# Altium footprint library SOT23-3.PcbLib: 1 footprints
Each footprint in its own frame and in the unit in brackets; x right, y up, seen from the top. Pads: shape width x height; smd on the part's side, far side on the other; paste and mask are expansions set on the pad; w line width, h text height; cw(c..) or ccw(c..) is an arc to the next point about the centre after c.
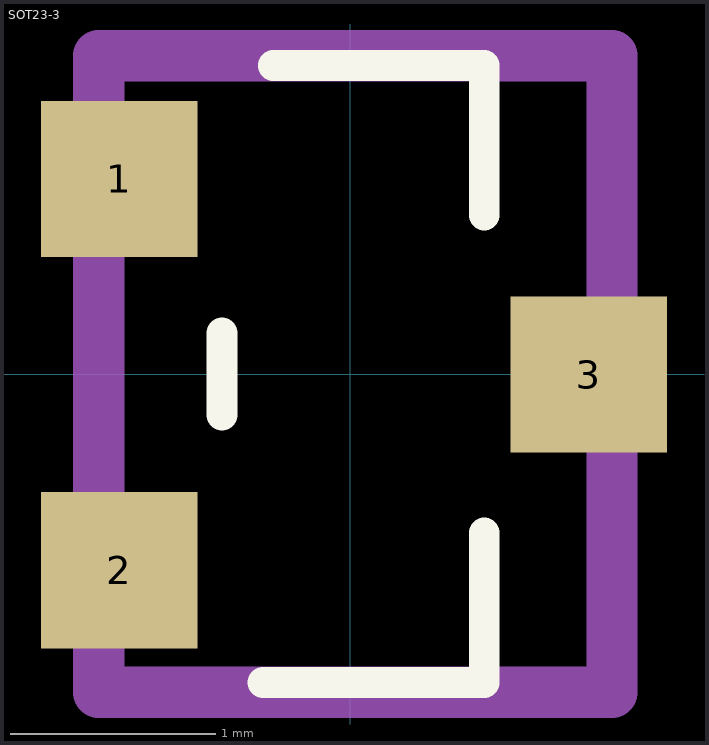
[diagram p0: the footprint, top view; thin cyan lines are the x and y axes]

## SOT23-3 [mil]
height 118.11
pads (3):
  rect 30x30 smd: 1(-44.29,37.4) 2(-44.29,-37.6) 3(45.71,-0.1)
Top Overlay:
  lines w5.91: -24.61,-7.87 -24.61,7.87 ; -16.73,-59.18 25.71,-59.18 25.71,-30.51 ; -14.76,59.19 25.71,59.19 25.71,30.51
Mechanical 13 (Mech13):
  lines w9.84: -48.23,-61.02 -48.23,61.02 50.2,61.02 50.2,-61.02 -48.23,-61.02
  text ".Designator" at -0.98,74.8 h84.65
3D body "SOT-23.step": height 41.34, standoff -1.97, extent -48.29,-59.6 50.14,58.51